# Altium footprint library SOP_127P_M.PcbLib: 38 footprints (part 1 of 3)
Each footprint in its own frame and in the unit in brackets; x right, y up, seen from the top. Pads: shape width x height; smd on the part's side, far side on the other; paste and mask are expansions set on the pad; w line width, h text height; cw(c..) or ccw(c..) is an arc to the next point about the centre after c.
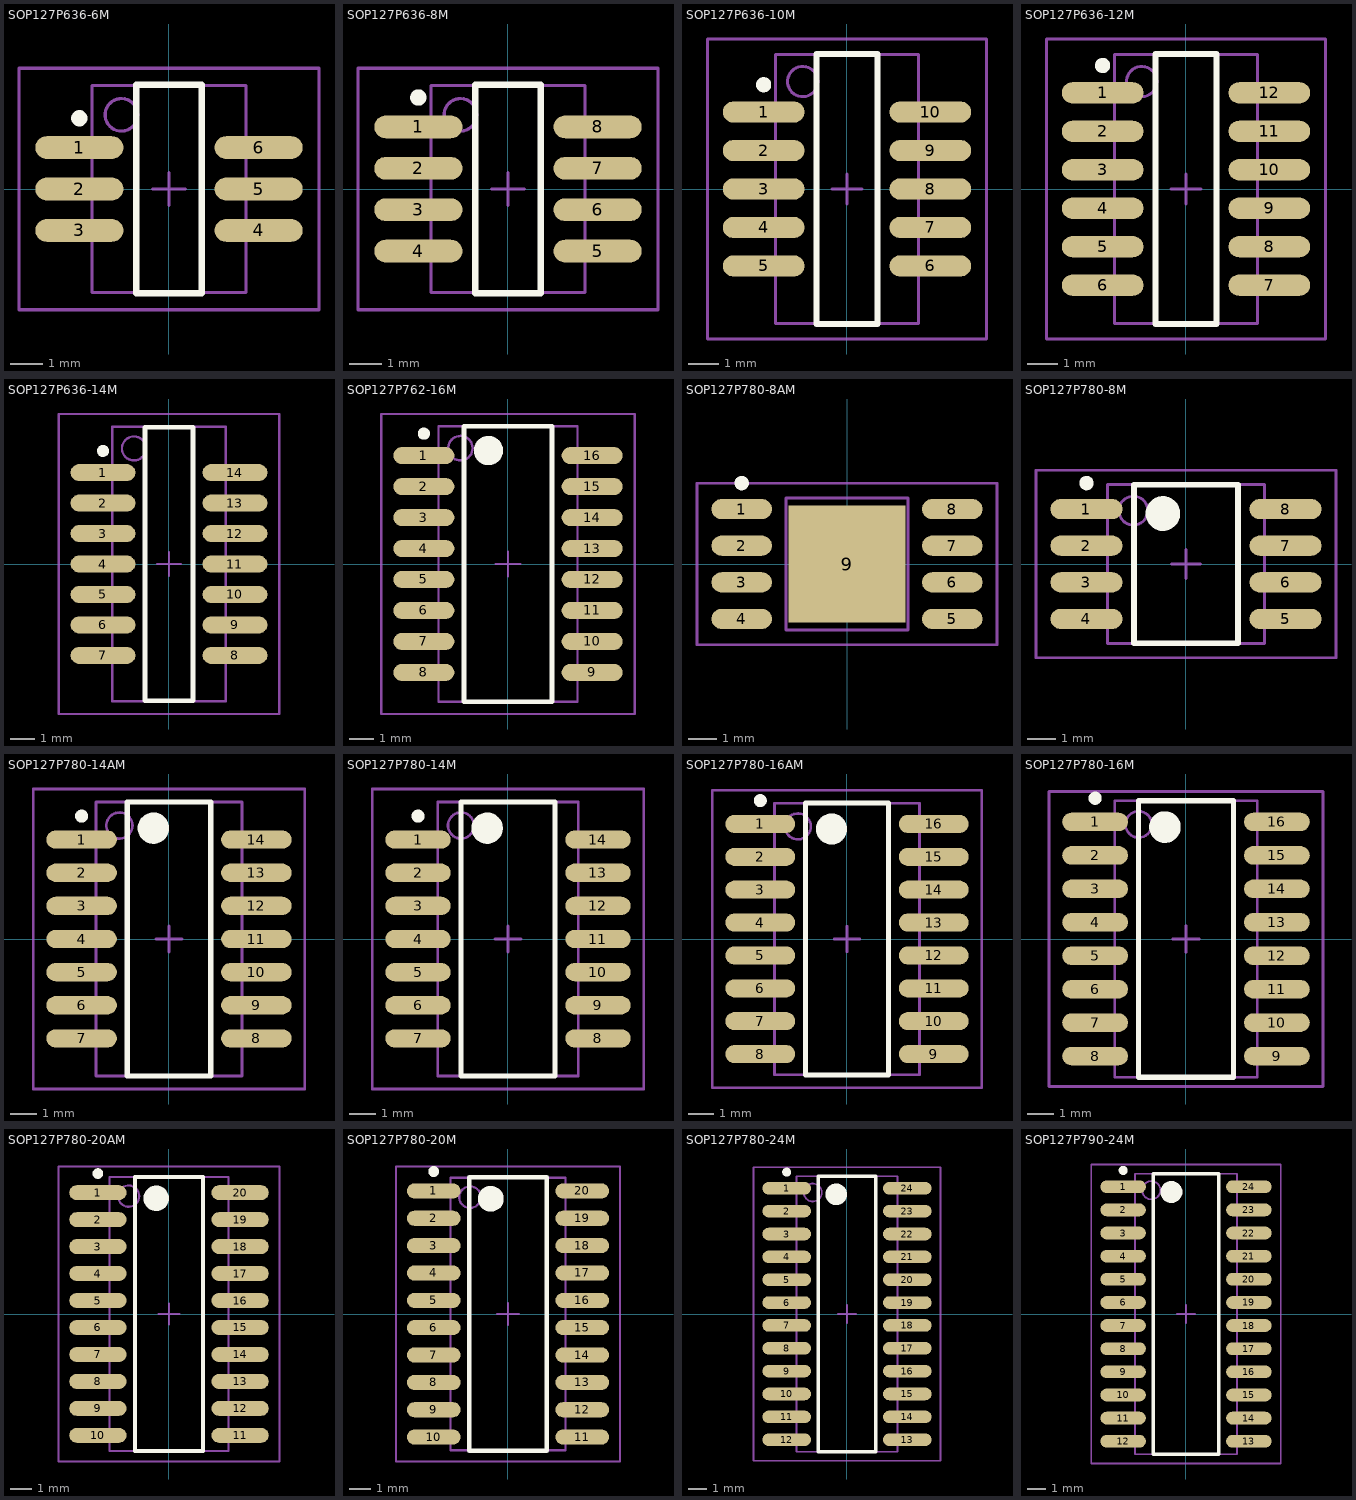
[diagram p0: the footprints below, top view; thin cyan lines are the x and y axes]

## SOP127P636-6M [mm] "SOP, 6-Leads, Body 6x4.7mm, Pitch 1.27mm, IPC Low Density"
height 1.5
pads (6):
  oval 2.7x0.7 smd: 1(-2.75,1.27) 2(-2.75,0) 3(-2.75,-1.27) 4(2.75,-1.27) 5(2.75,0) 6(2.75,1.27)
Top Overlay:
  circle w0.25: c-2.75,2.17 r0.125
  lines w0.2: -1,-3.2 1,-3.2 1,3.2 -1,3.2 -1,-3.2
Mechanical 13:
  circle w0.1: c-1.46,2.275 r0.5
  lines w0.1: -2.36,-3.175 2.36,-3.175 2.36,3.175 -2.36,3.175 -2.36,-3.175
Mechanical 15:
  lines w0.1: -0.5,0 0.5,0 ; 0,-0.5 0,0.5 ; -4.6,-3.7 4.6,-3.7 4.6,3.7 -4.6,3.7 -4.6,-3.7
3D body: height 1.5, standoff 0, extent -2.36,-3.175 2.36,3.175

## SOP127P636-8M [mm] "SOP, 8-Leads, Body 6x4.7mm, Pitch 1.27mm, IPC Low Density"
height 1.5
pads (8):
  oval 2.7x0.7 smd: 1(-2.75,1.905) 2(-2.75,0.635) 3(-2.75,-0.635) 4(-2.75,-1.905) 5(2.75,-1.905) 6(2.75,-0.635) 7(2.75,0.635) 8(2.75,1.905)
Top Overlay:
  circle w0.25: c-2.75,2.805 r0.125
  lines w0.2: -1,-3.2 -1,3.2 1,3.2 1,-3.2 -1,-3.2
Mechanical 13:
  circle w0.1: c-1.46,2.275 r0.5
  lines w0.1: -2.36,-3.175 -2.36,3.175 2.36,3.175 2.36,-3.175 -2.36,-3.175
Mechanical 15:
  lines w0.1: -0.5,0 0.5,0 ; 0,-0.5 0,0.5 ; -4.6,-3.7 -4.6,3.7 4.6,3.7 4.6,-3.7 -4.6,-3.7
3D body: height 1.5, standoff 0, extent -2.36,-3.175 2.36,3.175

## SOP127P636-10M [mm] "SOP, 10-Leads, Body 8.5x4.7mm, Pitch 1.27mm, IPC Low Density"
height 1.5
pads (10):
  oval 2.7x0.7 smd: 1(-2.75,2.54) 2(-2.75,1.27) 3(-2.75,0) 4(-2.75,-1.27) 5(-2.75,-2.54) 6(2.75,-2.54) 7(2.75,-1.27) 8(2.75,0) 9(2.75,1.27) 10(2.75,2.54)
Top Overlay:
  circle w0.25: c-2.75,3.44 r0.125
  lines w0.2: -1,-4.45 -1,4.45 1,4.45 1,-4.45 -1,-4.45
Mechanical 13:
  circle w0.1: c-1.46,3.545 r0.5
  lines w0.1: -2.36,-4.445 -2.36,4.445 2.36,4.445 2.36,-4.445 -2.36,-4.445
Mechanical 15:
  lines w0.1: -0.5,0 0.5,0 ; 0,-0.5 0,0.5 ; -4.6,-4.95 -4.6,4.95 4.6,4.95 4.6,-4.95 -4.6,-4.95
3D body: height 1.5, standoff 0, extent -2.36,-4.445 2.36,4.445

## SOP127P636-12M [mm] "SOP, 12-Leads, Body 8.5x4.7mm, Pitch 1.27mm, IPC Low Density"
height 1.5
pads (12):
  oval 2.7x0.7 smd: 1(-2.75,3.175) 2(-2.75,1.905) 3(-2.75,0.635) 4(-2.75,-0.635) 5(-2.75,-1.905) 6(-2.75,-3.175) 7(2.75,-3.175) 8(2.75,-1.905) 9(2.75,-0.635) 10(2.75,0.635) 11(2.75,1.905) 12(2.75,3.175)
Top Overlay:
  circle w0.25: c-2.75,4.075 r0.125
  lines w0.2: -1,-4.45 -1,4.45 1,4.45 1,-4.45 -1,-4.45
Mechanical 13:
  circle w0.1: c-1.46,3.545 r0.5
  lines w0.1: -2.36,-4.445 -2.36,4.445 2.36,4.445 2.36,-4.445 -2.36,-4.445
Mechanical 15:
  lines w0.1: -0.5,0 0.5,0 ; 0,-0.5 0,0.5 ; -4.6,-4.95 -4.6,4.95 4.6,4.95 4.6,-4.95 -4.6,-4.95
3D body: height 1.5, standoff 0, extent -2.36,-4.445 2.36,4.445

## SOP127P636-14M [mm] "SOP, 14-Leads, Body 11x4.7mm, Pitch 1.27mm, IPC Low Density"
height 1.5
pads (14):
  oval 2.7x0.7 smd: 1(-2.75,3.81) 2(-2.75,2.54) 3(-2.75,1.27) 4(-2.75,0) 5(-2.75,-1.27) 6(-2.75,-2.54) 7(-2.75,-3.81) 8(2.75,-3.81) 9(2.75,-2.54) 10(2.75,-1.27) 11(2.75,0) 12(2.75,1.27) 13(2.75,2.54) 14(2.75,3.81)
Top Overlay:
  circle w0.25: c-2.75,4.71 r0.125
  lines w0.2: -1,-5.7 -1,5.7 1,5.7 1,-5.7 -1,-5.7
Mechanical 13:
  circle w0.1: c-1.46,4.815 r0.5
  lines w0.1: -2.36,-5.715 -2.36,5.715 2.36,5.715 2.36,-5.715 -2.36,-5.715
Mechanical 15:
  lines w0.1: -0.5,0 0.5,0 ; 0,-0.5 0,0.5 ; -4.6,-6.25 -4.6,6.25 4.6,6.25 4.6,-6.25 -4.6,-6.25
3D body: height 1.5, standoff 0, extent -2.36,-5.715 2.36,5.715

## SOP127P762-16M [mm] "16-Pin Small Outline Package 1.27 mm Pitch"
height 2.2
pads (16):
  oval 2.5x0.7 smd: 1(-3.45,4.445) 2(-3.45,3.175) 3(-3.45,1.905) 4(-3.45,0.635) 5(-3.45,-0.635) 6(-3.45,-1.905) 7(-3.45,-3.175) 8(-3.45,-4.445) 9(3.45,-4.445) 10(3.45,-3.175) 11(3.45,-1.905) 12(3.45,-0.635) 13(3.45,0.635) 14(3.45,1.905) 15(3.45,3.175) 16(3.45,4.445)
Top Overlay:
  circle w0.25: c-3.45,5.345 r0.125
  circle w0.6: c-0.8,4.65 r0.3
  lines w0.2: -1.8,-5.65 -1.8,5.65 1.8,5.65 1.8,-5.65 -1.8,-5.65
Mechanical 13:
  circle w0.1: c-1.95,4.75 r0.5
  lines w0.1: -2.85,-5.65 -2.85,5.65 2.85,5.65 2.85,-5.65 -2.85,-5.65
Mechanical 15:
  lines w0.1: -0.5,0 0.5,0 ; 0,-0.5 0,0.5 ; -5.2,-6.15 -5.2,6.15 5.2,6.15 5.2,-6.15 -5.2,-6.15
3D body: height 2.2, standoff 0, extent -2.85,-5.65 2.85,5.65

## SOP127P780-8AM [mm] "8-Pin Small Outline Package 1.27 mm Pitch"
height 1.45
pads (9):
  oval 2.1x0.7 smd: 1(-3.65,1.905) 2(-3.65,0.635) 3(-3.65,-0.635) 4(-3.65,-1.905) 5(3.65,-1.905) 6(3.65,-0.635) 7(3.65,0.635) 8(3.65,1.905)
  rect 4.05x4.05 smd: 9(0,0)
Top Overlay:
  circle w0.25: c-3.65,2.805 r0.125
Mechanical 13:
  circle w0.1: c-1.21,1.385 r0.5
  lines w0.1: -2.11,-2.285 -2.11,2.285 2.11,2.285 2.11,-2.285 -2.11,-2.285
Mechanical 15:
  lines w0.1: -0.5,0 0.5,0 ; 0,-0.5 0,0.5 ; -5.2,-2.8 -5.2,2.8 5.2,2.8 5.2,-2.8 -5.2,-2.8
3D body: height 1.45, standoff 0, extent -2.11,-2.285 2.11,2.285

## SOP127P780-8M [mm] "SOP, 8-Leads, Body 5.3x5.3mm, Pitch 1.27mm, IPC Low Density"
height 2.03
pads (8):
  oval 2.5x0.7 smd: 1(-3.45,1.905) 2(-3.45,0.635) 3(-3.45,-0.635) 4(-3.45,-1.905) 5(3.45,-1.905) 6(3.45,-0.635) 7(3.45,0.635) 8(3.45,1.905)
Top Overlay:
  circle w0.6: c-0.8,1.75 r0.3
  circle w0.25: c-3.45,2.805 r0.125
  lines w0.2: -1.8,-2.75 1.8,-2.75 1.8,2.75 -1.8,2.75 -1.8,-2.75
Mechanical 13:
  circle w0.1: c-1.825,1.85 r0.5
  lines w0.1: -2.725,-2.75 2.725,-2.75 2.725,2.75 -2.725,2.75 -2.725,-2.75
Mechanical 15:
  lines w0.1: -0.5,0 0.5,0 ; 0,-0.5 0,0.5 ; -5.2,-3.25 5.2,-3.25 5.2,3.25 -5.2,3.25 -5.2,-3.25
3D body: height 2.03, standoff 0, extent -2.725,-2.75 2.725,2.75

## SOP127P780-14AM [mm] "14-Pin Small Outline Package 1.27 mm Pitch"
height 2
pads (14):
  oval 2.7x0.7 smd: 1(-3.35,3.81) 2(-3.35,2.54) 3(-3.35,1.27) 4(-3.35,0) 5(-3.35,-1.27) 6(-3.35,-2.54) 7(-3.35,-3.81) 8(3.35,-3.81) 9(3.35,-2.54) 10(3.35,-1.27) 11(3.35,0) 12(3.35,1.27) 13(3.35,2.54) 14(3.35,3.81)
Top Overlay:
  circle w0.6: c-0.6,4.25 r0.3
  circle w0.25: c-3.35,4.71 r0.125
  lines w0.2: -1.6,-5.25 1.6,-5.25 1.6,5.25 -1.6,5.25 -1.6,-5.25
Mechanical 13:
  circle w0.1: c-1.9,4.35 r0.5
  lines w0.1: -2.8,-5.25 2.8,-5.25 2.8,5.25 -2.8,5.25 -2.8,-5.25
Mechanical 15:
  lines w0.1: -0.5,0 0.5,0 ; 0,-0.5 0,0.5 ; -5.2,-5.75 5.2,-5.75 5.2,5.75 -5.2,5.75 -5.2,-5.75
3D body: height 2, standoff 0, extent -2.8,-5.25 2.8,5.25

## SOP127P780-14M [mm] "SOP, 14-Leads, Body 10.1x5.3mm, Pitch 1.27mm, IPC Low Density"
height 2.1
pads (14):
  oval 2.5x0.7 smd: 1(-3.45,3.81) 2(-3.45,2.54) 3(-3.45,1.27) 4(-3.45,0) 5(-3.45,-1.27) 6(-3.45,-2.54) 7(-3.45,-3.81) 8(3.45,-3.81) 9(3.45,-2.54) 10(3.45,-1.27) 11(3.45,0) 12(3.45,1.27) 13(3.45,2.54) 14(3.45,3.81)
Top Overlay:
  circle w0.6: c-0.8,4.25 r0.3
  circle w0.25: c-3.45,4.71 r0.125
  lines w0.2: -1.8,-5.25 1.8,-5.25 1.8,5.25 -1.8,5.25 -1.8,-5.25
Mechanical 13:
  circle w0.1: c-1.8,4.35 r0.5
  lines w0.1: -2.7,-5.25 2.7,-5.25 2.7,5.25 -2.7,5.25 -2.7,-5.25
Mechanical 15:
  lines w0.1: -0.5,0 0.5,0 ; 0,-0.5 0,0.5 ; -5.2,-5.75 5.2,-5.75 5.2,5.75 -5.2,5.75 -5.2,-5.75
3D body: height 2.1, standoff 0, extent -2.7,-5.25 2.7,5.25

## SOP127P780-16AM [mm] "16-Pin Small Outline Package 1.27 mm Pitch"
height 2
pads (16):
  oval 2.7x0.7 smd: 1(-3.35,4.445) 2(-3.35,3.175) 3(-3.35,1.905) 4(-3.35,0.635) 5(-3.35,-0.635) 6(-3.35,-1.905) 7(-3.35,-3.175) 8(-3.35,-4.445) 9(3.35,-4.445) 10(3.35,-3.175) 11(3.35,-1.905) 12(3.35,-0.635) 13(3.35,0.635) 14(3.35,1.905) 15(3.35,3.175) 16(3.35,4.445)
Top Overlay:
  circle w0.6: c-0.6,4.25 r0.3
  circle w0.25: c-3.35,5.345 r0.125
  lines w0.2: -1.6,-5.25 1.6,-5.25 1.6,5.25 -1.6,5.25 -1.6,-5.25
Mechanical 13:
  circle w0.1: c-1.9,4.35 r0.5
  lines w0.1: -2.8,-5.25 2.8,-5.25 2.8,5.25 -2.8,5.25 -2.8,-5.25
Mechanical 15:
  lines w0.1: -0.5,0 0.5,0 ; 0,-0.5 0,0.5 ; -5.2,-5.75 5.2,-5.75 5.2,5.75 -5.2,5.75 -5.2,-5.75
3D body: height 2, standoff 0, extent -2.8,-5.25 2.8,5.25

## SOP127P780-16M [mm] "SOP, 16-Leads, Body 10.1x5.3mm, Pitch 1.27mm, IPC Low Density"
height 2.1
pads (16):
  oval 2.5x0.7 smd: 1(-3.45,4.445) 2(-3.45,3.175) 3(-3.45,1.905) 4(-3.45,0.635) 5(-3.45,-0.635) 6(-3.45,-1.905) 7(-3.45,-3.175) 8(-3.45,-4.445) 9(3.45,-4.445) 10(3.45,-3.175) 11(3.45,-1.905) 12(3.45,-0.635) 13(3.45,0.635) 14(3.45,1.905) 15(3.45,3.175) 16(3.45,4.445)
Top Overlay:
  circle w0.6: c-0.8,4.25 r0.3
  circle w0.25: c-3.45,5.345 r0.125
  lines w0.2: -1.8,-5.25 1.8,-5.25 1.8,5.25 -1.8,5.25 -1.8,-5.25
Mechanical 13:
  circle w0.1: c-1.8,4.35 r0.5
  lines w0.1: -2.7,-5.25 2.7,-5.25 2.7,5.25 -2.7,5.25 -2.7,-5.25
Mechanical 15:
  lines w0.1: -0.5,0 0.5,0 ; 0,-0.5 0,0.5 ; -5.2,-5.6 5.2,-5.6 5.2,5.6 -5.2,5.6 -5.2,-5.6
3D body: height 2.1, standoff 0, extent -2.7,-5.25 2.7,5.25

## SOP127P780-20AM [mm] "20-Pin Small Outline Package 1.27 mm Pitch"
height 2
pads (20):
  oval 2.7x0.7 smd: 1(-3.35,5.715) 2(-3.35,4.445) 3(-3.35,3.175) 4(-3.35,1.905) 5(-3.35,0.635) 6(-3.35,-0.635) 7(-3.35,-1.905) 8(-3.35,-3.175) 9(-3.35,-4.445) 10(-3.35,-5.715) 11(3.35,-5.715) 12(3.35,-4.445) 13(3.35,-3.175) 14(3.35,-1.905) 15(3.35,-0.635) 16(3.35,0.635) 17(3.35,1.905) 18(3.35,3.175) 19(3.35,4.445) 20(3.35,5.715)
Top Overlay:
  circle w0.25: c-3.35,6.615 r0.125
  circle w0.6: c-0.6,5.45 r0.3
  lines w0.2: -1.6,-6.45 -1.6,6.45 1.6,6.45 1.6,-6.45 -1.6,-6.45
Mechanical 13:
  circle w0.1: c-1.9,5.55 r0.5
  lines w0.1: -2.8,-6.45 -2.8,6.45 2.8,6.45 2.8,-6.45 -2.8,-6.45
Mechanical 15:
  lines w0.1: -0.5,0 0.5,0 ; 0,-0.5 0,0.5 ; -5.2,-6.95 -5.2,6.95 5.2,6.95 5.2,-6.95 -5.2,-6.95
3D body: height 2, standoff 0, extent -2.8,-6.45 2.8,6.45

## SOP127P780-20M [mm] "SOP, 20-Leads, Body 12.6x5.3mm, Pitch 1.27mm, IPC Low Density"
height 1.96
pads (20):
  oval 2.5x0.7 smd: 1(-3.45,5.715) 2(-3.45,4.445) 3(-3.45,3.175) 4(-3.45,1.905) 5(-3.45,0.635) 6(-3.45,-0.635) 7(-3.45,-1.905) 8(-3.45,-3.175) 9(-3.45,-4.445) 10(-3.45,-5.715) 11(3.45,-5.715) 12(3.45,-4.445) 13(3.45,-3.175) 14(3.45,-1.905) 15(3.45,-0.635) 16(3.45,0.635) 17(3.45,1.905) 18(3.45,3.175) 19(3.45,4.445) 20(3.45,5.715)
Top Overlay:
  circle w0.6: c-0.8,5.35 r0.3
  circle w0.25: c-3.45,6.615 r0.125
  lines w0.2: -1.8,-6.35 1.8,-6.35 1.8,6.35 -1.8,6.35 -1.8,-6.35
Mechanical 13:
  circle w0.1: c-1.765,5.425 r0.5
  lines w0.1: -2.665,-6.325 2.665,-6.325 2.665,6.325 -2.665,6.325 -2.665,-6.325
Mechanical 15:
  lines w0.1: -0.5,0 0.5,0 ; 0,-0.5 0,0.5 ; -5.2,-6.85 5.2,-6.85 5.2,6.85 -5.2,6.85 -5.2,-6.85
3D body: height 1.96, standoff 0, extent -2.665,-6.325 2.665,6.325

## SOP127P780-24M [mm] "24-Pin Small Outline Package 1.27 mm Pitch"
height 2
pads (24):
  oval 2.7x0.7 smd: 1(-3.35,6.985) 2(-3.35,5.715) 3(-3.35,4.445) 4(-3.35,3.175) 5(-3.35,1.905) 6(-3.35,0.635) 7(-3.35,-0.635) 8(-3.35,-1.905) 9(-3.35,-3.175) 10(-3.35,-4.445) 11(-3.35,-5.715) 12(-3.35,-6.985) 13(3.35,-6.985) 14(3.35,-5.715) 15(3.35,-4.445) 16(3.35,-3.175) 17(3.35,-1.905) 18(3.35,-0.635) 19(3.35,0.635) 20(3.35,1.905) 21(3.35,3.175) 22(3.35,4.445) 23(3.35,5.715) 24(3.35,6.985)
Top Overlay:
  circle w0.6: c-0.6,6.65 r0.3
  circle w0.25: c-3.35,7.885 r0.125
  lines w0.2: -1.6,-7.65 1.6,-7.65 1.6,7.65 -1.6,7.65 -1.6,-7.65
Mechanical 13:
  circle w0.1: c-1.9,6.75 r0.5
  lines w0.1: -2.8,-7.65 2.8,-7.65 2.8,7.65 -2.8,7.65 -2.8,-7.65
Mechanical 15:
  lines w0.1: -0.5,0 0.5,0 ; 0,-0.5 0,0.5 ; -5.2,-8.15 5.2,-8.15 5.2,8.15 -5.2,8.15 -5.2,-8.15
3D body: height 2, standoff 0, extent -2.8,-7.65 2.8,7.65

## SOP127P790-24M [mm] "SOP, 24-Leads, Body 15.1x5.4mm, Pitch 1.27mm, IPC Low Density"
height 2.27
pads (24):
  oval 2.5x0.7 smd: 1(-3.45,6.985) 2(-3.45,5.715) 3(-3.45,4.445) 4(-3.45,3.175) 5(-3.45,1.905) 6(-3.45,0.635) 7(-3.45,-0.635) 8(-3.45,-1.905) 9(-3.45,-3.175) 10(-3.45,-4.445) 11(-3.45,-5.715) 12(-3.45,-6.985) 13(3.45,-6.985) 14(3.45,-5.715) 15(3.45,-4.445) 16(3.45,-3.175) 17(3.45,-1.905) 18(3.45,-0.635) 19(3.45,0.635) 20(3.45,1.905) 21(3.45,3.175) 22(3.45,4.445) 23(3.45,5.715) 24(3.45,6.985)
Top Overlay:
  circle w0.6: c-0.8,6.7 r0.3
  circle w0.25: c-3.45,7.885 r0.125
  lines w0.2: -1.8,-7.7 1.8,-7.7 1.8,7.7 -1.8,7.7 -1.8,-7.7
Mechanical 13:
  circle w0.1: c-1.905,6.795 r0.5
  lines w0.1: -2.805,-7.695 2.805,-7.695 2.805,7.695 -2.805,7.695 -2.805,-7.695
Mechanical 15:
  lines w0.1: -0.5,0 0.5,0 ; 0,-0.5 0,0.5 ; -5.2,-8.2 5.2,-8.2 5.2,8.2 -5.2,8.2 -5.2,-8.2
3D body: height 2.27, standoff 0, extent -2.805,-7.695 2.805,7.695